# Altium footprint library SODFL2513X100N.PcbLib: 1 footprints
Each footprint in its own frame and in the unit in brackets; x right, y up, seen from the top. Pads: shape width x height; smd on the part's side, far side on the other; paste and mask are expansions set on the pad; w line width, h text height; cw(c..) or ccw(c..) is an arc to the next point about the centre after c.
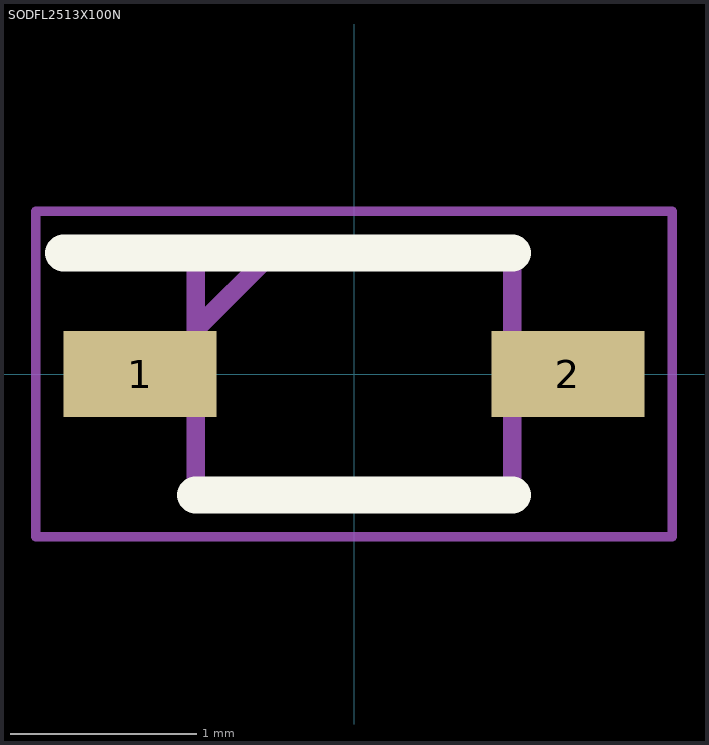
[diagram p0: the footprint, top view; thin cyan lines are the x and y axes]

## SODFL2513X100N [mm]
pads (2):
  rect 0.82x0.46 smd: 1(-1.15,0) 2(1.15,0)
Top Overlay:
  lines w0.2: -1.56,0.65 0.85,0.65 ; -0.85,-0.65 0.85,-0.65
Mechanical 15:
  lines w0.1: -0.85,0.24 -0.44,0.65 ; -0.85,-0.65 0.85,-0.65 0.85,0.65 -0.85,0.65 -0.85,-0.65
Mechanical 20:
  lines w0.05: -1.71,-0.875 1.71,-0.875 1.71,0.875 -1.71,0.875 -1.71,-0.875